# Altium schematic symbol library MOSFET IPD85P04P4-07.SchLib: 1 symbol
Pins are listed as number, name and electrical type; pins without a type are passive.

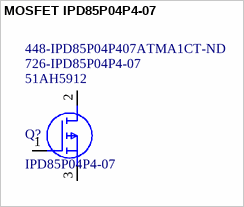
[diagram p0: symbol MOSFET IPD85P04P4-07]

## MOSFET IPD85P04P4-07
designator Q?, comment IPD85P04P4-07  Supplier Part Number 1: 51AH5912  Supplier Part Number 2: 726-IPD85P04P4-07  Supplier Part Number 3: 448-IPD85P04P407ATMA1CT-ND
P-Channel 40 V 85A (Tc) 88W (Tc) Surface Mount PG-TO252-3-313; Supplier 1: Newark; Supplier 2: Mouser; Supplier 3: Digi-Key
footprint DPAK (TO-252)
pins: 1 G, 2 D, 3 S